# Altium footprint library PCBLibPutallaz.PcbLib: 49 footprints (part 4 of 4)
Each footprint in its own frame and in the unit in brackets; x right, y up, seen from the top. Pads: shape width x height; smd on the part's side, far side on the other; paste and mask are expansions set on the pad; w line width, h text height; cw(c..) or ccw(c..) is an arc to the next point about the centre after c.
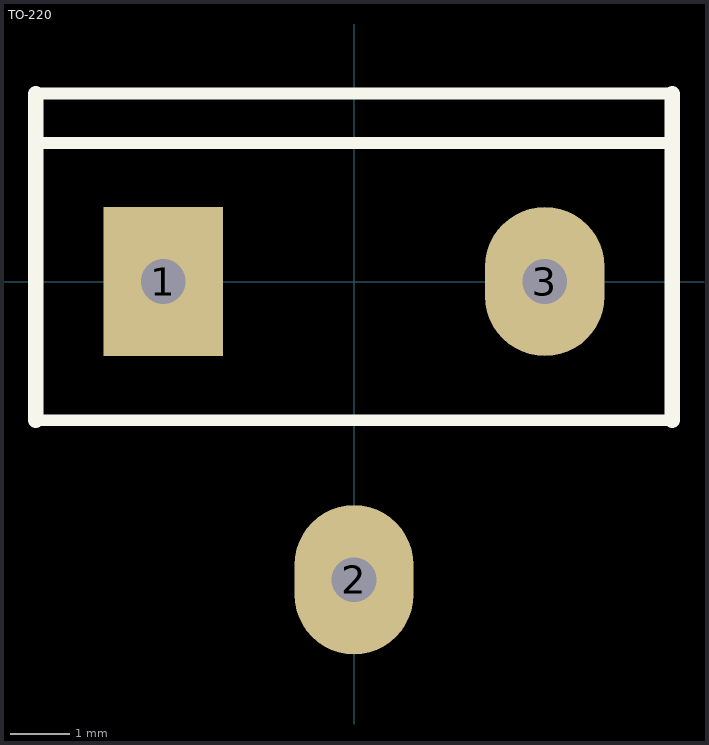
[diagram p3: the footprint, top view; thin cyan lines are the x and y axes]

## TO-220 [mm] "SIP with Mounting Hole; 3 Leads; Body 26 x 20 x 5 mm (typ); Pitch 5.45 mm"
height 29
pads (3):
  rect 2x2.5 hole 0.75: 1(-3.2,0)
  oval 2x2.5 hole 0.75: 2(0,-5) 3(3.2,0)
Top Overlay:
  lines w0.2: -5.335,-2.325 5.335,-2.325 ; -5.335,2.325 5.335,2.325 ; -5.335,3.15 5.335,3.15
  lines w0.254: -5.335,-2.325 -5.335,3.15 ; 5.335,-2.325 5.335,3.15